# EAGLE library part DS3231 (library BaseApp)
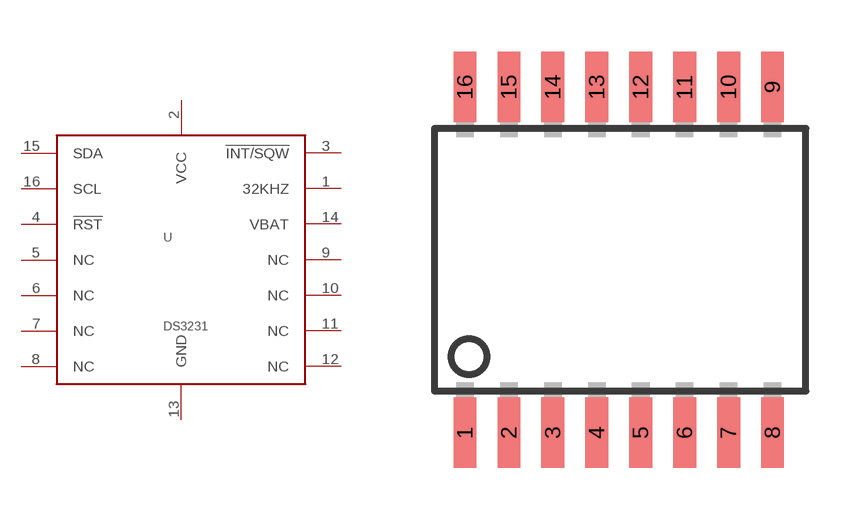
[diagram p135: symbol with the pads of SOIC-16; footprint SOIC-16]

Designator prefix -

## DS3231  [SOIC-16]
1  32KHZ
2  VCC
3  !INT/SQW
4  !RST
5  NC
6  NC
7  NC
8  NC
9  NC
10  NC
11  NC
12  NC
13  GND
14  VBAT
15  SDA
16  SCL

## Footprint SOIC-16 (pad centres in mm)
smd 0.66 x 2.032: 1 -4.445,-5; 2 -3.175,-5; 3 -1.905,-5; 4 -0.635,-5; 5 0.635,-5; 6 1.905,-5; 7 3.175,-5; 8 4.445,-5; 9 4.445,5; 10 3.175,5; 11 1.905,5; 12 0.635,5; 13 -0.635,5; 14 -1.905,5; 15 -3.175,5; 16 -4.445,5